# EAGLE library part 2550- (library con-3m)
3M (TM) Pak 100 4-Wall Header Source: 3M
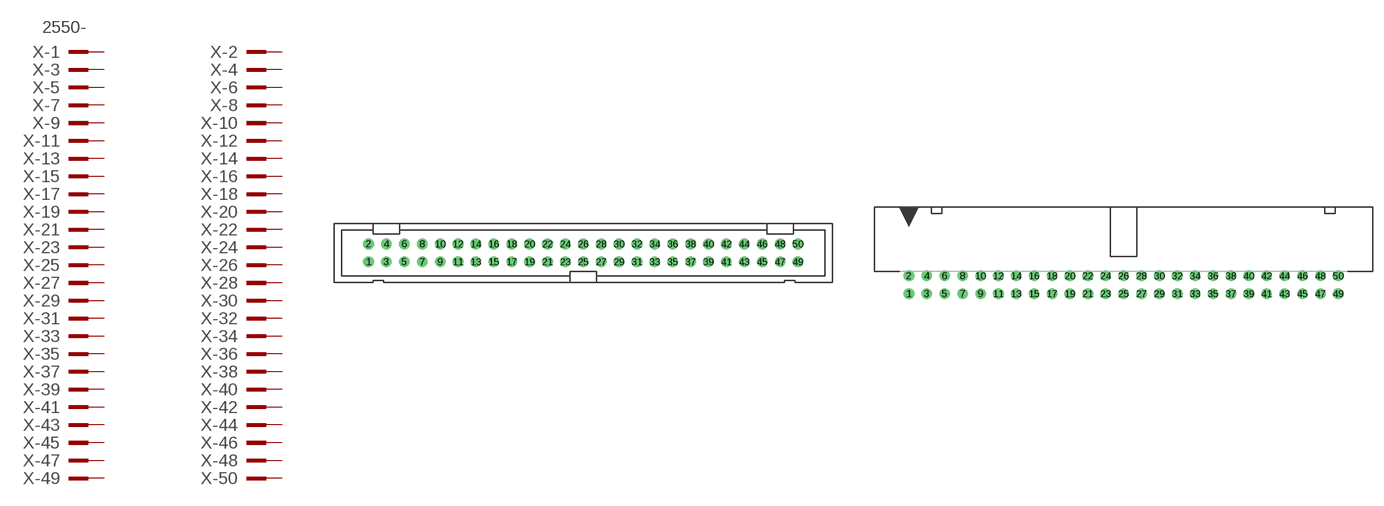
[diagram p1: symbol with the pads of PAK100/2500-50; footprints PAK100/2500-50, PAK100/2500-5-50]

Designator prefix X; gates -1=PINV -2=PIN -3=PIN -4=PIN -5=PIN -6=PIN -7=PIN -8=PIN -9=PIN -10=PIN -11=PIN -12=PIN -13=PIN -14=PIN -15=PIN -16=PIN -17=PIN -18=PIN -19=PIN -20=PIN -21=PIN -22=PIN -23=PIN -24=PIN -25=PIN -26=PIN -27=PIN -28=PIN -29=PIN -30=PIN -31=PIN -32=PIN -33=PIN -34=PIN -35=PIN -36=PIN -37=PIN -38=PIN -39=PIN -40=PIN -41=PIN -42=PIN -43=PIN -44=PIN -45=PIN -46=PIN -47=PIN -48=PIN -49=PIN -50=PIN

## 2550- (OC_FARNELL: unknown; OC_NEWARK: unknown)  [PAK100/2500-50]
1  -1:KL  pas
2  -2:KL  pas
3  -3:KL  pas
4  -4:KL  pas
5  -5:KL  pas
6  -6:KL  pas
7  -7:KL  pas
8  -8:KL  pas
9  -9:KL  pas
10  -10:KL  pas
11  -11:KL  pas
12  -12:KL  pas
13  -13:KL  pas
14  -14:KL  pas
15  -15:KL  pas
16  -16:KL  pas
17  -17:KL  pas
18  -18:KL  pas
19  -19:KL  pas
20  -20:KL  pas
21  -21:KL  pas
22  -22:KL  pas
23  -23:KL  pas
24  -24:KL  pas
25  -25:KL  pas
26  -26:KL  pas
27  -27:KL  pas
28  -28:KL  pas
29  -29:KL  pas
30  -30:KL  pas
31  -31:KL  pas
32  -32:KL  pas
33  -33:KL  pas
34  -34:KL  pas
35  -35:KL  pas
36  -36:KL  pas
37  -37:KL  pas
38  -38:KL  pas
39  -39:KL  pas
40  -40:KL  pas
41  -41:KL  pas
42  -42:KL  pas
43  -43:KL  pas
44  -44:KL  pas
45  -45:KL  pas
46  -46:KL  pas
47  -47:KL  pas
48  -48:KL  pas
49  -49:KL  pas
50  -50:KL  pas

## 2550-5 (OC_FARNELL: 1788696; OC_NEWARK: unknown)  [PAK100/2500-5-50]
Pads as for PAK100/2500-50

## Footprint PAK100/2500-50 (pad centres in mm)
3M (TM) Pak 100 4-Wall Header Straight Source: 3M
drill 1 pad 1.422: 1 -30.48,-1.27; 2 -30.48,1.27; 3 -27.94,-1.27; 4 -27.94,1.27; 5 -25.4,-1.27; 6 -25.4,1.27; 7 -22.86,-1.27; 8 -22.86,1.27; 9 -20.32,-1.27; 10 -20.32,1.27; 11 -17.78,-1.27; 12 -17.78,1.27; 13 -15.24,-1.27; 14 -15.24,1.27; 15 -12.7,-1.27; 16 -12.7,1.27; 17 -10.16,-1.27; 18 -10.16,1.27; 19 -7.62,-1.27; 20 -7.62,1.27; 21 -5.08,-1.27; 22 -5.08,1.27; 23 -2.54,-1.27; 24 -2.54,1.27; 25 0,-1.27; 26 0,1.27; 27 2.54,-1.27; 28 2.54,1.27; 29 5.08,-1.27; 30 5.08,1.27; 31 7.62,-1.27; 32 7.62,1.27; 33 10.16,-1.27; 34 10.16,1.27; 35 12.7,-1.27; 36 12.7,1.27; 37 15.24,-1.27; 38 15.24,1.27; 39 17.78,-1.27; 40 17.78,1.27; 41 20.32,-1.27; 42 20.32,1.27; 43 22.86,-1.27; 44 22.86,1.27; 45 25.4,-1.27; 46 25.4,1.27; 47 27.94,-1.27; 48 27.94,1.27; 49 30.48,-1.27; 50 30.48,1.27

## Footprint PAK100/2500-5-50 (pad centres in mm)
3M (TM) Pak 100 4-Wall Header Right Angle Source: 3M
drill 1 pad 1.422: 1 -30.48,-1.27; 2 -30.48,1.27; 3 -27.94,-1.27; 4 -27.94,1.27; 5 -25.4,-1.27; 6 -25.4,1.27; 7 -22.86,-1.27; 8 -22.86,1.27; 9 -20.32,-1.27; 10 -20.32,1.27; 11 -17.78,-1.27; 12 -17.78,1.27; 13 -15.24,-1.27; 14 -15.24,1.27; 15 -12.7,-1.27; 16 -12.7,1.27; 17 -10.16,-1.27; 18 -10.16,1.27; 19 -7.62,-1.27; 20 -7.62,1.27; 21 -5.08,-1.27; 22 -5.08,1.27; 23 -2.54,-1.27; 24 -2.54,1.27; 25 0,-1.27; 26 0,1.27; 27 2.54,-1.27; 28 2.54,1.27; 29 5.08,-1.27; 30 5.08,1.27; 31 7.62,-1.27; 32 7.62,1.27; 33 10.16,-1.27; 34 10.16,1.27; 35 12.7,-1.27; 36 12.7,1.27; 37 15.24,-1.27; 38 15.24,1.27; 39 17.78,-1.27; 40 17.78,1.27; 41 20.32,-1.27; 42 20.32,1.27; 43 22.86,-1.27; 44 22.86,1.27; 45 25.4,-1.27; 46 25.4,1.27; 47 27.94,-1.27; 48 27.94,1.27; 49 30.48,-1.27; 50 30.48,1.27